# Altium footprint library traco-electronic.PCBLIB: 9 footprints
Each footprint in its own frame and in the unit in brackets; x right, y up, seen from the top. Pads: shape width x height; smd on the part's side, far side on the other; paste and mask are expansions set on the pad; w line width, h text height; cw(c..) or ccw(c..) is an arc to the next point about the centre after c.
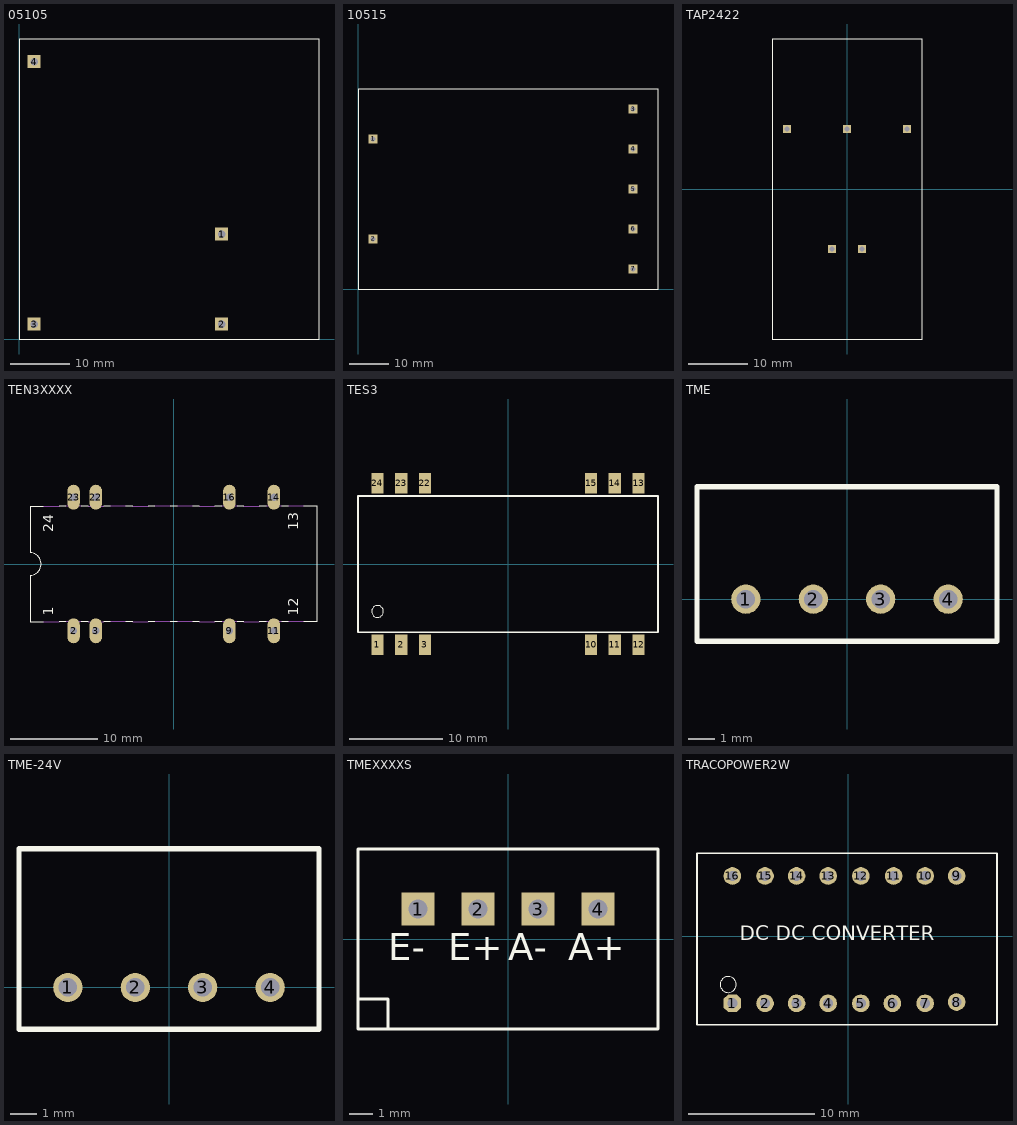
[diagram p0: the footprints below, top view; thin cyan lines are the x and y axes]

## 05105 [mil]
pads (4):
  rect 86x86 hole 50: 1(1350,700) 2(1350,100) 3(100,100) 4(100,1850)
Top Overlay:
  lines w5: 0,0 2000,0 2000,2000 0,2000 0,0

## 10515 [mil]
pads (7):
  rect 86x86 hole 50: 1(150,1500) 2(150,500) 3(2750,1800) 4(2750,1400) 5(2750,1000) 6(2750,600) 7(2750,200)
Top Overlay:
  lines w10: 0,0 3000,0 3000,2000 0,2000 0,0

## TAP2422 [mil]
pads (5):
  rect 55x55 hole 32: +VIN(100,-400) +VOUT(400,400) -VIN(-100,-400) -VOUT(-400,400) COM(0,400)
Top Overlay:
  lines w5: -500,-1000 500,-1000 500,1000 -500,1000 -500,-1000

## TEN3XXXX [mil]
pads (8):
  oval 56x112 hole 32: 2(-450,-300) 3(-350,-300) 9(250,-300) 11(450,-300) 14(450,300) 16(250,300) 22(-350,300) 23(-450,300)
Top Overlay:
  lines w5: -585,-260 -645,-260 -645,-50 ccw(c-645,0) -645,50 -645,260 -585,260 ; -515,-260 -485,-260 ; -515,260 -485,260 ; -415,-260 -385,-260 ; -415,260 -385,260 ; -315,-260 -285,-260 ; -315,260 -285,260 ; -215,-260 -185,-260 ; -215,260 -185,260 ; -115,-260 -85,-260 ; -115,260 -85,260 ; -15,-260 15,-260 ; -15,260 15,260 ; 85,-260 115,-260 ; 85,260 115,260 ; 185,-260 215,-260 ; 185,260 215,260 ; 285,-260 315,-260 ; 285,260 315,260 ; 385,-260 415,-260 ; 385,260 415,260 ; 485,-260 515,-260 ; 485,260 515,260 ; 585,-260 645,-260 645,260 585,260
  text "1" at -525,-233 h77.5
  text "24" at -525,142 h77.5
  text "12" at 575,-233 h77.5
  text "13" at 575,152 h77.5
Mechanical 16:
  lines w5: -585,-260 -515,-260 ; -585,260 -515,260 ; -485,-260 -415,-260 ; -485,260 -415,260 ; -385,-260 -315,-260 ; -385,260 -315,260 ; -285,-260 -215,-260 ; -285,260 -215,260 ; -185,-260 -115,-260 ; -185,260 -115,260 ; -85,-260 -15,-260 ; -85,260 -15,260 ; 15,-260 85,-260 ; 15,260 85,260 ; 115,-260 185,-260 ; 115,260 185,260 ; 215,-260 285,-260 ; 215,260 285,260 ; 315,-260 385,-260 ; 315,260 385,260 ; 415,-260 485,-260 ; 415,260 485,260 ; 515,-260 585,-260 ; 515,260 585,260

## TES3 [mil]
pads (12):
  rect 51.18x86.61 smd: 1(-550,-340) 2(-450,-340) 3(-350,-340) 10(350,-340) 11(450,-340) 12(550,-340) 13(550,340) 14(450,340) 15(350,340) 22(-350,340) 23(-450,340) 24(-550,340)
Top Overlay:
  circle w0: c-550,-200 r25
  lines w8: -631.89,-287.4 631.89,-287.4 631.89,286.42 -631.89,286.42 -631.89,-287.4

## TME [mil]
pads (4):
  round 43.31 hole 27.56: 1(-150,0) 2(-50,0) 3(50,0) 4(150,0)
Top Overlay:
  lines w8: -222.44,-62.2 222.44,-62.2 222.44,166.54 -222.44,166.54 -222.44,-62.2

## TME-24V [mil]
pads (4):
  round 43.31 hole 27.56: 1(-150,0) 2(-50,0) 3(50,0) 4(150,0)
Top Overlay:
  lines w8: -222.44,-62.2 222.44,-62.2 222.44,166.54 222.44,205.91 -222.44,205.91 -222.44,166.54 -222.44,-62.2

## TMEXXXXS [mil]
pads (4):
  rect 55x55 hole 32: 1(-150,50) 2(-50,50) 3(50,50) 4(150,50)
Top Overlay:
  lines w5: -250,-100 -250,-150 -200,-150 ; -250,-100 -250,150 250,150 250,-150 -200,-150 ; -250,-100 -200,-100 -200,-150
  text "E-" at -200,-50 h77.5
  text "E+" at -100,-50 h77.5
  text "A-" at 0,-50 h77.5
  text "A+" at 100,-50 h77.5

## TRACOPOWER2W [mil]
pads (16):
  oct 55.12x55.12 hole 31.5: 1(-362.2,-208.66)
  round 55.12 hole 31.5: 2(-259.84,-208.66) 3(-161.42,-208.66) 4(-62.99,-208.66) 5(39.37,-208.66) 6(137.8,-208.66) 7(240.16,-208.66) 8(338.58,-204.72) 9(338.58,188.98) 10(240.16,188.98) 11(141.73,188.98) 12(39.37,188.98) 13(-62.99,188.98) 14(-161.42,188.98) 15(-259.84,188.98) 16(-362.2,188.98)
Top Overlay:
  circle w0: c-375,-150 r25
  lines w5: -472.44,-275.59 464.57,-275.59 464.57,259.84 -472.44,259.84 -472.44,-275.59
  text "DC DC CONVERTER" at -338.58,-27.56 h77.5